# EAGLE library part 693021010811 (library Wurth_Elektronik_Electromechanic_Input-Output_Connectors_rev15c)
WR-CRD_Micro SIM_Push & Push_w Card Detection_SMT Micro SIM Push & Push Type SMT - with Card Detection - 1.25mm Height Code:Con_I-O_COM_CRD_SIM_Micro_693021010811_693021010811 <http://katalog.we-online.de/media/images/eican/Con_I-O_COM_CRD_SIM_Micro_693021010811_pf2.jpg> Details see: http://katalog.we-online.de/en/em/693_021_010_811/693_021_010_811?m Created 2014-12-22, aslant tao 2014 (C) Würth Elektronik
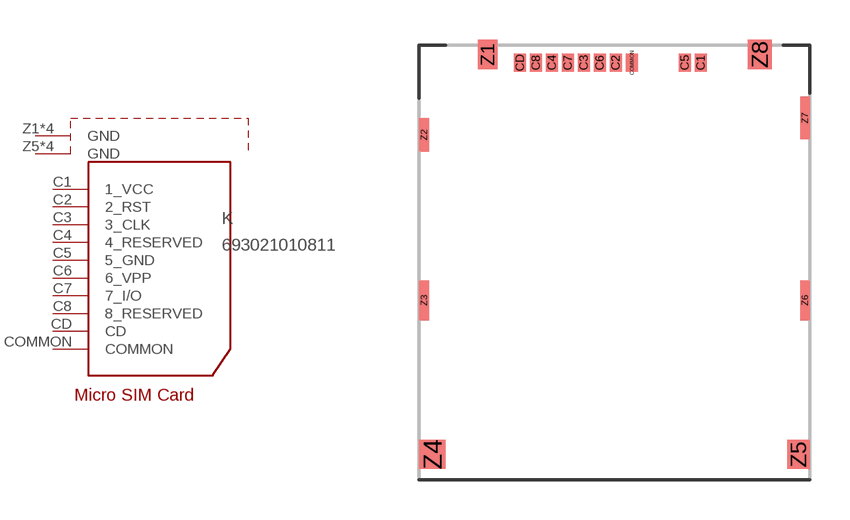
[diagram p151: symbol with the pads of 693021010811; footprint 693021010811]

Designator prefix K

## 693021010811  [693021010811]
C1  1_VCC
C2  2_RST
C3  3_CLK
C4  4_RESERVED
C5  5_GND
C6  6_VPP
C7  7_I/O
C8  8_RESERVED
CD  CD
COMMON  COMMON
Z1  GND
Z2  GND
Z3  GND
Z4  GND
Z5  GND
Z6  GND
Z7  GND
Z8  GND

## Footprint 693021010811 (pad centres in mm)
smd 0.45 x 0.68: C1 3.25,-0.66; C2 0.05,-0.66; C3 -1.15,-0.66; C4 -2.35,-0.66; C5 2.65,-0.66; C6 -0.55,-0.66; C7 -1.75,-0.66; C8 -2.95,-0.66; CD -3.55,-0.66; COMMON 0.65,-0.66
smd 0.75 x 1.1: Z1 -4.77,-0.35
smd 0.37 x 1.25: Z2 -7.165,-3.375
smd 0.37 x 1.5: Z3 -7.165,-9.6; Z6 7.165,-9.6
smd 1 x 1.1: Z4 -6.85,-15.4
smd 0.85 x 1.1: Z5 6.925,-15.4
smd 0.37 x 1.6: Z7 7.165,-2.74
smd 0.9 x 1.1: Z8 5.46,-0.35